# Altium schematic symbol library Micromouse_Schlib1.SchLib: 16 symbols
Pins are listed as number, name and electrical type; pins without a type are passive.

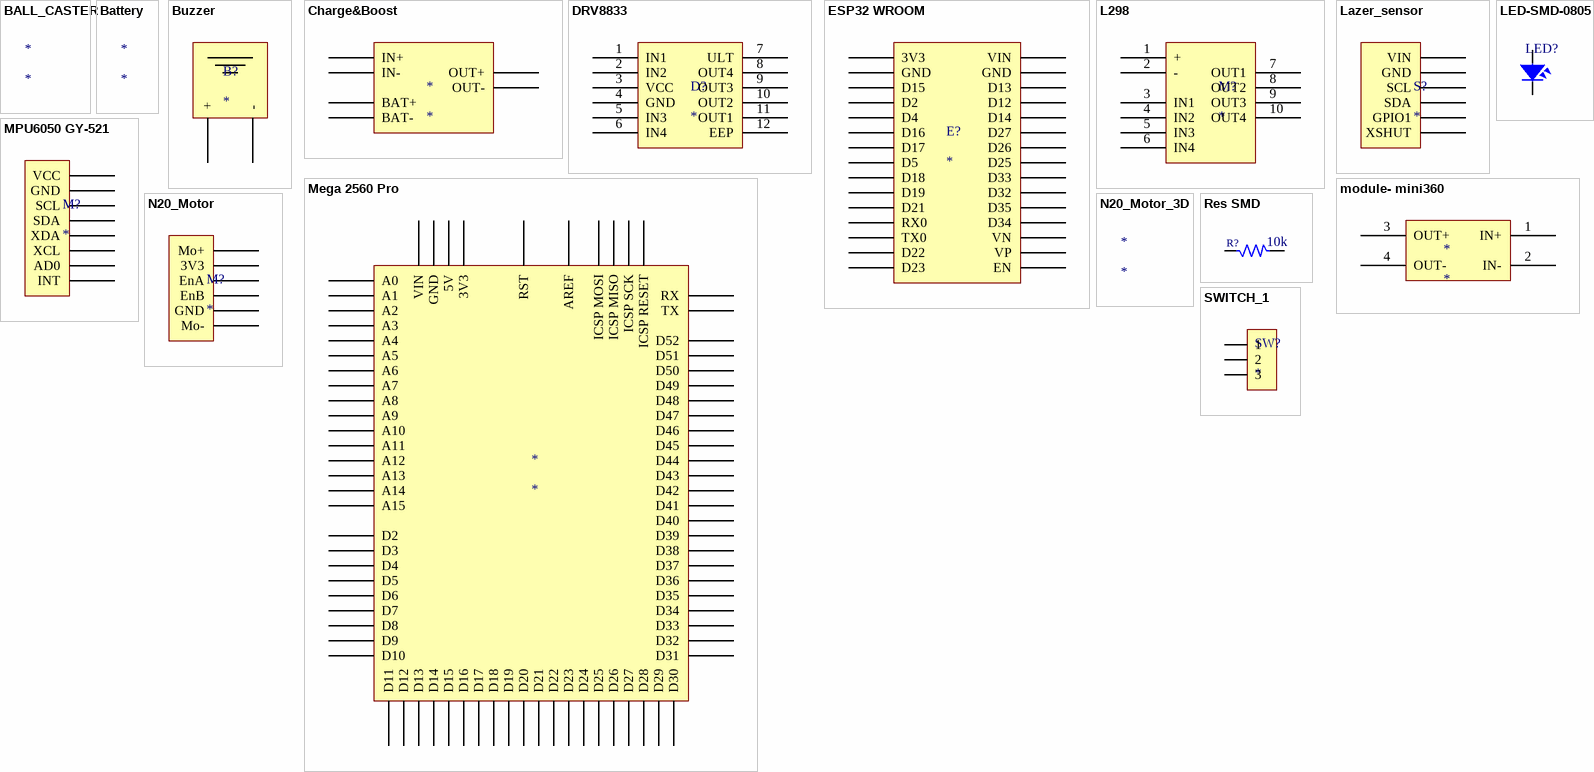
[diagram p0: symbols BALL_CASTER to SWITCH_1]

## BALL_CASTER
designator *
footprint Ball_caster

## Battery
designator *
footprint Lithium

## Buzzer
designator B?
12xx
footprint Buzzer
pins: +, -

## Charge&Boost
designator *
footprint Charge&Boost
pins: BAT+, BAT-, IN+, IN-, OUT+, OUT-

## DRV8833
designator D?
Module
footprint DRV8833 (Module)
pins: 1 IN1, 2 IN2, 3 VCC, 4 GND, 5 IN3, 6 IN4, 7 ULT, 8 OUT4, 9 OUT3, 10 OUT2, 11 OUT1, 12 EEP

## ESP32 WROOM
designator E?
footprint ESP32 WROOM
pins: 3V3, D2, D4, D5, D12, D13, D14, D15, D16, D17, D18, D19, D21, D22, D23, D25, D26, D27, D32, D33, D34, D35, EN, GND, GND, RX0, TX0, VIN, VN, VP

## L298
designator M?
Module Mini
footprint L298 (Module)
pins: 1 +, 2 -, 3 IN1, 4 IN2, 5 IN3, 6 IN4, 7 OUT1, 8 OUT2, 9 OUT3, 10 OUT4

## Lazer_sensor
designator S?
VL53L0X (ToF-F) 940nm GY-VL53L0XV2 I2C
footprint Lazer_Sensor (VL53L0X (ToF-F) 940nm GY-VL53L0XV2 I2C)
pins: 1 VIN, 2 GND, 3 SCL, 4 SDA, 5 GPIO1, 6 XSHUT

## LED-SMD-0805
designator LED?, comment LED SMD  (value not drawn)
footprint SM-LED-0805-Blue
footprint SM-LED-0805-Green
footprint SM-LED-0805-Orange
footprint SM-LED-0805-Red
footprint SM-LED-0805-Yellow
pins: 1, 2

## Mega 2560 Pro
designator *
footprint Mega 2560 Pro (Module)
pins: 3V3, 5V, A0, A1, A2, A3, A4, A5, A6, A7, A8, A9, A10, A11, A12, A13, A14, A15, AREF, D2, D3, D4, D5, D6, D7, D8, D9, D10, D11, D12, D13, D14, D15, D16, D17, D18, D19, D20, D21, D22, D23, D24, D25, D26, D27, D28, D29, D30, D31, D32, D33, D34, D35, D36, D37, D38, D39, D40, D41, D42, D43, D44, D45, D46, D47, D48, D49, D50, D51, D52, GND, MI ICSP MISO, MO ICSP MOSI, RS ICSP RESET, RST, RX, SCK ICSP SCK, TX, VIN

## module- mini360
designator *
footprint MODULE-MINI360
pins: 1 IN+, 2 IN-, 3 OUT+, 4 OUT-

## MPU6050 GY-521
designator M?
Module
footprint MPU6050 GY-521 (mODULE)
pins: 1 VCC, 2 GND, 3 SCL, 4 SDA, 5 XDA, 6 XCL, 7 AD0, 8 INT

## N20_Motor
designator M?
footprint Header_N20_Motor
pins: 3V3, EnA, EnB, GND, Mo+, Mo-

## N20_Motor_3D
designator *
footprint N20_Motor (N20 Encoder)

## Res SMD
designator R?, comment 10k
Res 0805
footprint RESC2012X70N (Chip Resistor, Body 2.0x1.2mm, EIA 0805, IPC Medium Density)
pins: 1, 2

## SWITCH_1
designator SW?
footprint SWITCH
pins: 1, 2, 3